# Altium footprint library Diode.PcbLib: 17 footprints (part 1 of 2)
Each footprint in its own frame and in the unit in brackets; x right, y up, seen from the top. Pads: shape width x height; smd on the part's side, far side on the other; paste and mask are expansions set on the pad; w line width, h text height; cw(c..) or ccw(c..) is an arc to the next point about the centre after c.
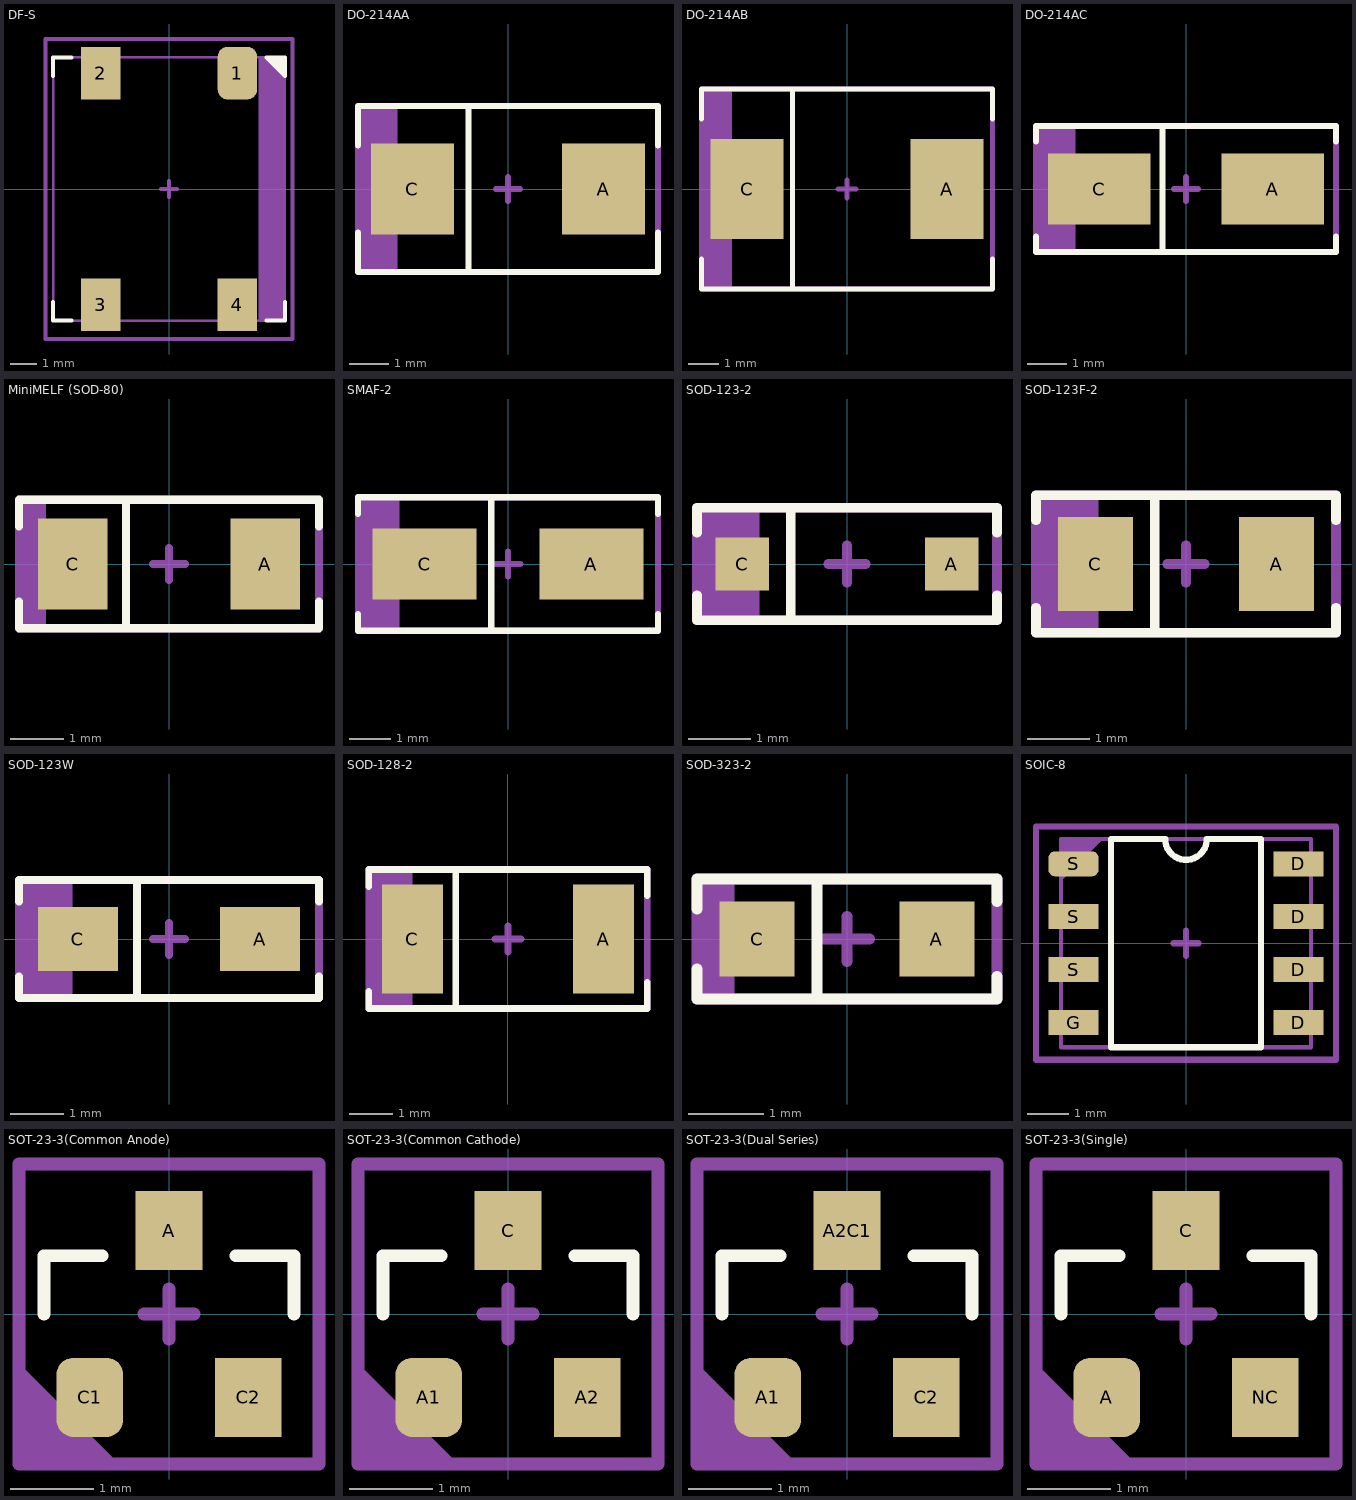
[diagram p0: the footprints below, top view; thin cyan lines are the x and y axes]

## DF-S [mm]
pads (4):
  rrect50% 1.5x2 smd: 1(2.6,4.4)
  rect 1.5x2 smd: 2(-2.6,4.4) 3(-2.6,-4.4) 4(2.6,-4.4)
Top Overlay:
  region: 3.7,5 4.4,5 4.4,4.3
  lines w0.153: -4.4,-4.3 -4.4,-5 -3.7,-5 ; -4.4,4.3 -4.4,5 -3.7,5 ; 3.7,-5 4.4,-5 4.4,-4.3 ; 3.7,5 4.4,5 4.4,4.3 3.7,5
Top Assembly:
  region: 4.4,5 3.4,5 3.4,-5 4.4,-5
  lines w0.1: -4.4,-5 4.4,-5 4.4,5 -4.4,5 -4.4,-5
  text "'.Designator'" at -4.532,-0.233 h0.8
Top Courtyard (Mech6):
  lines w0.153: -0.3,0 0.3,0 ; 0,-0.3 0,0.3 ; -4.7,-5.7 4.7,-5.7 4.7,5.7 -4.7,5.7 -4.7,-5.7
3D body "User Library-Bridge rectifier DFS package-1.step": height 3.02, standoff 0, extent -4.4,-4.985 4.4,4.985

## DO-214AA [mm]
pads (2):
  rect 2.1x2.3 smd mask+0.05: A(2.42,0) C(-2.42,0)
Top Overlay:
  lines w0.153: -3.8,-1.1 -3.8,-2.1 3.8,-2.1 3.8,-1.1 ; -3.8,1.1 -3.8,2.1 3.8,2.1 3.8,1.1 ; -1,-2.1 -1,2.1
Top Assembly:
  rectangle: -3.8,-2.1 -2.8,2.1
  lines w0.1: -3.8,-2.1 -3.8,2.1 3.8,2.1 3.8,-2.1 -3.8,-2.1
  text "'.Designator'" at -4.532,-0.333 h0.8
Top Courtyard (Mech6):
  lines w0.153: -0.3,0 0.3,0 ; 0,-0.3 0,0.3 ; -3.8,-2.1 3.8,-2.1 3.8,2.1 -3.8,2.1 -3.8,-2.1
3D body "User Library-DO-214AA_SMB.step": height 2.2, standoff -0.05, extent -2.65,-1.85 2.65,1.85

## DO-214AB [mm]
pads (2):
  rect 2.4x3.3 smd mask+0.05: A(3.3,0) C(-3.3,0)
Top Overlay:
  lines w0.153: -4.8,-2.3 -4.8,-3.3 4.8,-3.3 4.8,-2.3 ; -4.8,2.3 -4.8,3.3 4.8,3.3 4.8,2.3 ; -1.8,-3.3 -1.8,3.3
Top Assembly:
  rectangle: -4.8,-3.3 -3.8,3.3
  lines w0.1: -4.8,-3.3 4.8,-3.3 4.8,3.3 -4.8,3.3 -4.8,-3.3
  text "'.Designator'" at -4.532,-0.333 h0.8
Top Courtyard (Mech6):
  lines w0.153: -0.3,0 0.3,0 ; 0,-0.3 0,0.3 ; -4.8,-3.3 4.8,-3.3 4.8,3.3 -4.8,3.3 -4.8,-3.3
3D body "User Library-SMCJ17A-13-F.step": height 2.26, standoff 0, extent -3.751,-2.98 3.751,2.98

## DO-214AC [mm]
pads (2):
  rect 2.6x1.8 smd: A(2.2,0) C(-2.2,0)
Top Overlay:
  lines w0.153: -3.8,-1.2 -3.8,-1.6 3.8,-1.6 3.8,-1.2 ; -3.8,1.2 -3.8,1.6 3.8,1.6 3.8,1.2 ; -0.6,-1.6 -0.6,1.6
Top Assembly:
  region: -2.8,1.6 -3.8,1.6 -3.8,-1.6 -2.8,-1.6
  lines w0.1: -3.8,-1.6 -3.8,1.6 3.8,1.6 3.8,-1.6 -3.8,-1.6
  text "'.Designator'" at -4.532,-0.333 h0.8
Top Courtyard (Mech6):
  lines w0.153: -0.3,0 0.3,0 ; 0,-0.3 0,0.3 ; -3.8,-1.6 -3.8,1.6 3.8,1.6 3.8,-1.6 -3.8,-1.6
3D body "User Library-DO-214AC SMA.STEP": height 2.4, standoff 0, extent -2.6,-1.3 2.6,1.3

## MiniMELF (SOD-80) [mm]
pads (2):
  rect 1.3x1.7 smd: A(1.8,0) C(-1.8,0)
Top Overlay:
  lines w0.153: -2.8,-0.7 -2.8,-1.2 2.8,-1.2 2.8,-0.7 ; -2.8,0.7 -2.8,1.2 2.8,1.2 2.8,0.7 ; -0.8,-1.1 -0.8,1.1
Top Assembly:
  region: -2.3,1.2 -2.8,1.2 -2.8,-1.2 -2.3,-1.2
  lines w0.1: -2.8,-1.2 2.8,-1.2 2.8,1.2 -2.8,1.2 -2.8,-1.2
  text "'.Designator'" at -4.532,-0.333 h0.8
Top Courtyard (Mech6):
  lines w0.153: -0.3,0 0.3,0 ; 0,-0.3 0,0.3 ; -2.8,-1.2 2.8,-1.2 2.8,1.2 -2.8,1.2 -2.8,-1.2
3D body "User Library-MiniMelf-2.step": height 1.6, standoff 0, extent -1.88,-0.794 1.82,0.794

## SMAF-2 [mm]
pads (2):
  rect 2.5x1.7 smd: A(2,0) C(-2,0)
Top Overlay:
  lines w0.153: -3.6,-1.2 -3.6,-1.6 3.6,-1.6 3.6,-1.2 ; -3.6,1.2 -3.6,1.6 3.6,1.6 3.6,1.2 ; -0.4,-1.6 -0.4,1.6
Top Assembly:
  region: -2.6,1.6 -3.6,1.6 -3.6,-1.6 -2.6,-1.6
  lines w0.1: -3.6,-1.6 3.6,-1.6 3.6,1.6 -3.6,1.6 -3.6,-1.6
  text "'.Designator'" at -4.532,-0.333 h0.8
Top Courtyard (Mech6):
  lines w0.153: -0.3,0 0.3,0 ; 0,-0.3 0,0.3 ; -3.6,-1.6 -3.6,1.6 3.6,1.6 3.6,-1.6 -3.6,-1.6
3D body "User Library-DO-214AD.step": height 1, standoff 0, extent -2.35,-1.25 2.35,1.25

## SOD-123-2 [mm]
pads (2):
  rect 0.85x0.85 smd mask+0.05: A(1.675,0) C(-1.675,0)
Top Overlay:
  lines w0.153: -2.4,-0.5 -2.4,-0.9 2.4,-0.9 2.4,-0.5 ; -2.4,0.5 -2.4,0.9 2.4,0.9 2.4,0.5 ; -0.9,-0.9 -0.9,0.9
Top Assembly:
  region: -1.4,0.9 -2.4,0.9 -2.4,-0.9 -1.4,-0.9
  lines w0.1: -2.4,-0.9 -2.4,0.9 2.4,0.9 2.4,-0.9 -2.4,-0.9
  text "'.Designator'" at -4.532,-0.333 h0.8
Top Courtyard (Mech6):
  lines w0.153: -0.3,0 0.3,0 ; 0,-0.3 0,0.3 ; -2.4,-0.9 -2.4,0.9 2.4,0.9 2.4,-0.9 -2.4,-0.9
3D body "User Library-SOD123-1.step": height 1.18, standoff 0, extent -1.95,-0.9 1.95,0.9

## SOD-123F-2 [mm]
pads (2):
  rect 1.2x1.5 smd mask+0.05: A(1.45,0) C(-1.45,0)
Top Overlay:
  lines w0.153: -2.4,-0.7 -2.4,-1.1 2.4,-1.1 2.4,-0.7 ; -2.4,0.7 -2.4,1.1 2.4,1.1 2.4,0.7 ; -0.5,-1.1 -0.5,1.1
Top Assembly:
  region: -1.4,1.1 -2.4,1.1 -2.4,-1.1 -1.4,-1.1
  lines w0.1: -2.4,-1.1 -2.4,1.1 2.4,1.1 2.4,-1.1 -2.4,-1.1
  text "'.Designator'" at -4.532,-0.333 h0.8
Top Courtyard (Mech6):
  lines w0.153: -0.3,0 0.3,0 ; 0,-0.3 0,0.3 ; -2.4,-1.1 -2.4,1.1 2.4,1.1 2.4,-1.1 -2.4,-1.1
3D body "User Library-SOD123F.step": height 1.2, standoff -0.01, extent -1.9,-0.85 1.85,0.85

## SOD-123W [mm]
pads (2):
  rect 1.5x1.2 smd mask+0.05: A(1.7,0) C(-1.7,0)
Top Overlay:
  lines w0.153: -2.8,-0.7 -2.8,-1.1 2.8,-1.1 2.8,-0.7 ; -2.8,0.7 -2.8,1.1 2.8,1.1 2.8,0.7 ; -0.6,-1.1 -0.6,1.1
Top Assembly:
  region: -1.8,1.1 -2.8,1.1 -2.8,-1.1 -1.8,-1.1
  lines w0.1: -2.8,-1.1 2.8,-1.1 2.8,1.1 -2.8,1.1 -2.8,-1.1
  text "'.Designator'" at -4.532,-0.333 h0.8
Top Courtyard (Mech6):
  lines w0.153: -0.3,0 0.3,0 ; 0,-0.3 0,0.3 ; -2.8,-1.1 2.8,-1.1 2.8,1.1 -2.8,1.1 -2.8,-1.1
3D body "User Library-SOD123W.step": height 1.1, standoff -0.01, extent -2,-0.95 2,0.95

## SOD-128-2 [mm]
height 1.1
pads (2):
  rect 1.4x2.5 smd: A(2.2,0) C(-2.2,0)
Top Overlay:
  lines w0.153: -3.2,-1.2 -3.2,-1.6 3.2,-1.6 3.2,-1 ; -3.2,1.2 -3.2,1.6 3.2,1.6 3.2,1 ; -1.2,-1.6 -1.2,1.6
Top Assembly:
  region: -2.2,1.6 -3.2,1.6 -3.2,-1.6 -2.2,-1.6
  lines w0.1: -3.2,-1.6 3.2,-1.6 3.2,1.6 -3.2,1.6 -3.2,-1.6
  text "'.Designator'" at -4.532,-0.333 h0.8
Top Courtyard (Mech6):
  lines w0.153: -0.3,0 0.3,0 ; 0,-0.3 0,0.3 ; -3.2,-1.6 3.2,-1.6 3.2,1.6 -3.2,1.6 -3.2,-1.6
3D body "User Library-SOD128.STEP": height 1.1, standoff -0.01, extent -2.5,-1.35 2.5,1.35

## SOD-323-2 [mm]
pads (2):
  rect 1x1 smd: A(1.2,0) C(-1.2,0)
Top Overlay:
  lines w0.153: -2,-0.4 -2,-0.8 2,-0.8 2,-0.5 ; -2,0.4 -2,0.8 2,0.8 2,0.5 ; -0.4,-0.8 -0.4,0.8
Top Assembly:
  region: -1.5,0.8 -2,0.8 -2,-0.8 -1.5,-0.8
  lines w0.1: -2,-0.8 -2,0.8 2,0.8 2,-0.8 -2,-0.8
  text "'.Designator'" at -4.532,-0.333 h0.8
Top Courtyard (Mech6):
  lines w0.153: -0.3,0 0.3,0 ; 0,-0.3 0,0.3 ; -2,-0.8 2,-0.8 2,0.8 -2,0.8 -2,-0.8
3D body "User Library-SOD-323F.STEP": height 0.78, standoff -0.09, extent -1.325,-0.675 1.375,0.675

## SOIC-8 [mm]
pads (8):
  rect 1.2x0.6 smd: D(2.7,-1.905) D(2.7,-0.635) D(2.7,0.635) D(2.7,1.905) G(-2.7,-1.905) S(-2.7,-0.635) S(-2.7,0.635)
  rrect50% 1.2x0.6 smd: S(-2.7,1.905)
Top Overlay:
  lines w0.153: -1.8,-2.5 1.8,-2.5 1.8,2.5 0.5,2.5 cw(c0,2.5) -0.5,2.5 -1.8,2.5 -1.8,-2.5
Top Assembly:
  region: -3,2.5 -2,2.5 -3,1.5
  lines w0.1: -3,-2.5 -3,2.5 3,2.5 3,-2.5 -3,-2.5
  text "'.Designator'" at -4.532,-0.333 h0.8
Top Courtyard (Mech6):
  lines w0.153: -0.3,0 0.3,0 ; 0,-0.3 0,0.3 ; -3.6,-2.8 3.6,-2.8 3.6,2.8 -3.6,2.8 -3.6,-2.8
3D body "so8-3.step": height 1.7, standoff 0, extent -3,-2.45 3,2.45

## SOT-23-3(Common Anode) [mm]
pads (3):
  rect 0.8x0.95 smd: A(0,1) C2(0.95,-1)
  rrect50% 0.8x0.95 smd: C1(-0.95,-1)
Top Overlay:
  lines w0.153: -1.5,0 -1.5,0.7 -0.8,0.7 ; 0.8,0.7 1.5,0.7 1.5,0
Top Assembly:
  region: -1.8,-1.8 -1.8,-0.6 -0.6,-1.8
  lines w0.1: -1.8,-1.8 -1.8,1.8 1.8,1.8 1.8,-1.8 -1.8,-1.8
  text "'.Designator'" at -4.532,-0.333 h0.8
Top Courtyard (Mech6):
  lines w0.153: -0.3,0 0.3,0 ; 0,-0.3 0,0.3 ; -1.8,-1.8 -1.8,1.8 1.8,1.8 1.8,-1.8 -1.8,-1.8
3D body "CircuitWorks-SOT-23.STEP": height 1.05, standoff -0.05, extent -1.5,-1.25 1.5,1.25

## SOT-23-3(Common Cathode) [mm]
pads (3):
  rrect50% 0.8x0.95 smd: A1(-0.95,-1)
  rect 0.8x0.95 smd: A2(0.95,-1) C(0,1)
Top Overlay:
  lines w0.153: -1.5,0 -1.5,0.7 -0.8,0.7 ; 0.8,0.7 1.5,0.7 1.5,0
Top Assembly:
  region: -1.8,-1.8 -1.8,-0.6 -0.6,-1.8
  lines w0.1: -1.8,-1.8 -1.8,1.8 1.8,1.8 1.8,-1.8 -1.8,-1.8
  text "'.Designator'" at -4.532,-0.333 h0.8
Top Courtyard (Mech6):
  lines w0.153: -0.3,0 0.3,0 ; 0,-0.3 0,0.3 ; -1.8,-1.8 -1.8,1.8 1.8,1.8 1.8,-1.8 -1.8,-1.8
3D body "CircuitWorks-SOT-23.STEP": height 1.05, standoff -0.05, extent -1.5,-1.25 1.5,1.25

## SOT-23-3(Dual Series) [mm]
pads (3):
  rrect50% 0.8x0.95 smd: A1(-0.95,-1)
  rect 0.8x0.95 smd: A2C1(0,1) C2(0.95,-1)
Top Overlay:
  lines w0.153: -1.5,0 -1.5,0.7 -0.8,0.7 ; 0.8,0.7 1.5,0.7 1.5,0
Top Assembly:
  region: -1.8,-1.8 -1.8,-0.6 -0.6,-1.8
  lines w0.1: -1.8,-1.8 -1.8,1.8 1.8,1.8 1.8,-1.8 -1.8,-1.8
  text "'.Designator'" at -4.532,-0.333 h0.8
Top Courtyard (Mech6):
  lines w0.153: -0.3,0 0.3,0 ; 0,-0.3 0,0.3 ; -1.8,-1.8 -1.8,1.8 1.8,1.8 1.8,-1.8 -1.8,-1.8
3D body "CircuitWorks-SOT-23.STEP": height 1.05, standoff -0.05, extent -1.5,-1.25 1.5,1.25

## SOT-23-3(Single) [mm]
pads (3):
  rrect50% 0.8x0.95 smd: A(-0.95,-1)
  rect 0.8x0.95 smd: C(0,1) NC(0.95,-1)
Top Overlay:
  lines w0.153: -1.5,0 -1.5,0.7 -0.8,0.7 ; 0.8,0.7 1.5,0.7 1.5,0
Top Assembly:
  region: -1.8,-1.8 -1.8,-0.6 -0.6,-1.8
  lines w0.1: -1.8,-1.8 -1.8,1.8 1.8,1.8 1.8,-1.8 -1.8,-1.8
  text "'.Designator'" at -4.532,-0.333 h0.8
Top Courtyard (Mech6):
  lines w0.153: -0.3,0 0.3,0 ; 0,-0.3 0,0.3 ; -1.8,-1.8 -1.8,1.8 1.8,1.8 1.8,-1.8 -1.8,-1.8
3D body "CircuitWorks-SOT-23.STEP": height 1.05, standoff -0.05, extent -1.5,-1.25 1.5,1.25